# EAGLE library part FLASH-(Q)SPI (library CougsInSpace-IC-Memory)
Flash - SPI/QSPI IS25LP016D <https://github.com/CougsInSpace/Resources/blob/master/SupplierDocuments/ISSI/IS25LP016D_Flash-SPI.pdf>
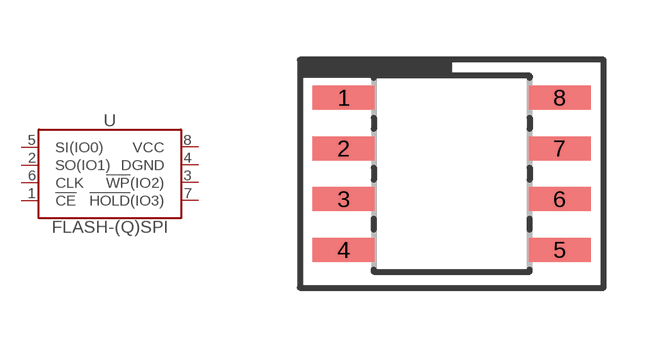
[diagram p1: symbol with the pads of SO8; footprint SO8]

Designator prefix U

## FLASH-(Q)SPI-2MB-SO8 (SKU: 29-0002; VALUE: IS25LP016D)  [SO8]
1  !CE  in
2  SO(IO1)
3  !WP!(IO2)
4  DGND  pwr
5  SI(IO0)
6  CLK  in
7  !HOLD!(IO3)
8  VCC  pwr

## Footprint SO8 (pad centres in mm)
Small-Outline (SO) - 8 Pins
smd 1.55 x 0.6: 1 -2.7,1.905; 2 -2.7,0.635; 3 -2.7,-0.635; 4 -2.7,-1.905; 5 2.7,-1.905; 6 2.7,-0.635; 7 2.7,0.635; 8 2.7,1.905